# Altium schematic symbol library SM06B-GHS-TB.SchLib: 2 symbols
Pins are listed as number, name and electrical type; pins without a type are passive.

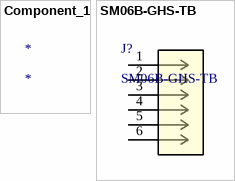
[diagram p0: symbols Component_1 to SM06B-GHS-TB]

## Component_1
designator *

## SM06B-GHS-TB
designator J?
Connector Header Surface Mount, Right Angle 6 position 0.049" (1.25mm); Manufacturer_Name: JST; Copyright: Copyright (C) 2025 Ultra Librarian. All rights reserved.; Manufacturer_Part_Number: SM06B-GHS-TB; RefDes: RefDes; Type: Type
footprint CONN_SM06B-GHS-TB_JST
pins: 1, 2, 3, 4, 5, 6